# EAGLE library part MP65151DJ (library Domino)
Precision 60mA-1.7A Programmable Current-Limited Power Distribution Switch
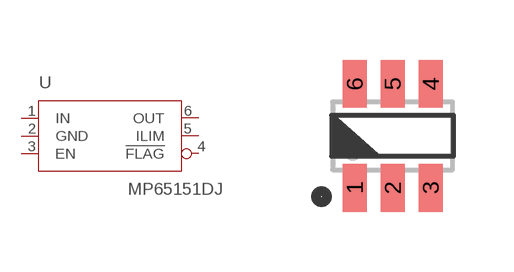
[diagram p25: symbol with the pads of SOT23-6; footprint SOT23-6]

Designator prefix U

## MP65151DJ  [SOT23-6]
1  IN  pwr
2  GND  pwr
3  EN  in
4  !FLAG  oc
5  ILIM  pas
6  OUT  sup

## Footprint SOT23-6 (pad centres in mm)
Small Outline Transistor (SOT), 6 Pins (SOT23-6) Package
smd 0.6 x 1.2: 1 -0.95,-1.3; 2 0,-1.3; 3 0.95,-1.3; 4 0.95,1.3; 5 0,1.3; 6 -0.95,1.3